# EAGLE library part 1MM7 (library 7P_1.25mmCON)
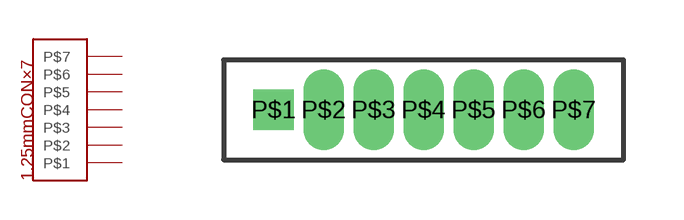
[diagram p0: symbol with the pads of 1MM7; footprint 1MM7]

Designator prefix -

## 1MM7  [1MM7]
P$1  P$1
P$2  P$2
P$3  P$3
P$4  P$4
P$5  P$5
P$6  P$6
P$7  P$7

## Footprint 1MM7 (pad centres in mm)
drill 0.5 square: P$1 0,0
drill 0.5 long: P$2 1.25,0; P$3 2.5,0; P$4 3.75,0; P$5 5,0; P$6 6.25,0; P$7 7.5,0